# Altium schematic symbol library IC_Texas_Instruments_BQ294700DSGR_eec.SchLib: 1 symbol
Pins are listed as number, name and electrical type; pins without a type are passive.

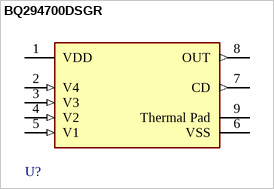
[diagram p0: symbol BQ294700DSGR]

## BQ294700DSGR
designator U?  (value not drawn)
pins: 1 VDD (power), 2 V4 (in), 3 V3 (in), 4 V2 (in), 5 V1 (in), 6 VSS (power), 7 CD (out), 8 OUT (out), 9 Thermal Pad (power)